# EAGLE library part 613012243121 (library 613012243121)
WURTH ELEKTRONIK - 613012243121 - CONNECTOR, RCPT, 12POS, 2ROW, 2.54MM Source: Datasheet
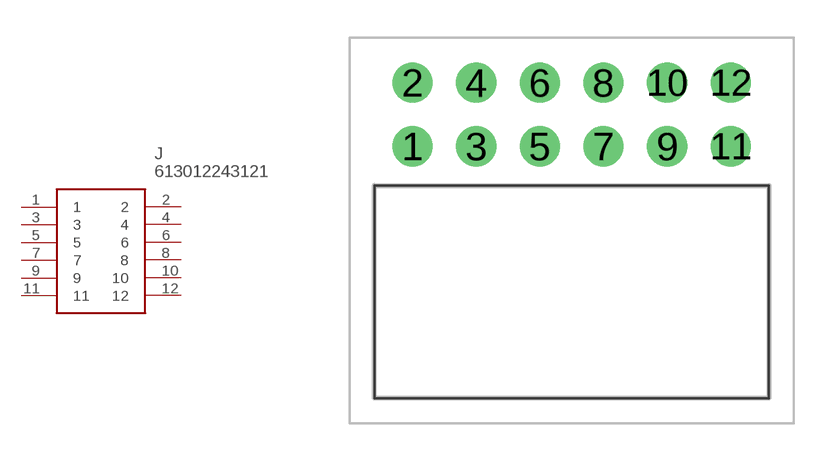
[diagram p0: symbol with the pads of 613012243121; footprint 613012243121]

Designator prefix J

## 613012243121 (Description: WURTH ELEKTRONIK - 613012243121 - CONNECTOR, RCPT, 12POS, 2ROW, 2.54MM; Height: 5.23mm; Manufacturer_Name: Wurth Elektronik; Manufacturer_Part_Number: 613012243121; Mouser_Part_Number: 710-613012243121; Mouser_Price-Stock: https://www.mouser.co.uk/ProductDetail/Wurth-Elektronik/613012243121?qs=iLbezkQI%252Bsgb444HYkTruQ%3D%3D)  [613012243121]
1  1
2  2
3  3
4  4
5  5
6  6
7  7
8  8
9  9
10  10
11  11
12  12

## Footprint 613012243121 (pad centres in mm)
613012243121-1
drill 1.07 pad 1.605: 1 0,0; 2 0,2.54; 3 2.54,0; 4 2.54,2.54; 5 5.08,0; 6 5.08,2.54; 7 7.62,0; 8 7.62,2.54; 9 10.16,0; 10 10.16,2.54; 11 12.7,0; 12 12.7,2.54